# Altium footprint library NetTie_0.4.PcbLib: 1 footprints
Each footprint in its own frame and in the unit in brackets; x right, y up, seen from the top. Pads: shape width x height; smd on the part's side, far side on the other; paste and mask are expansions set on the pad; w line width, h text height; cw(c..) or ccw(c..) is an arc to the next point about the centre after c.
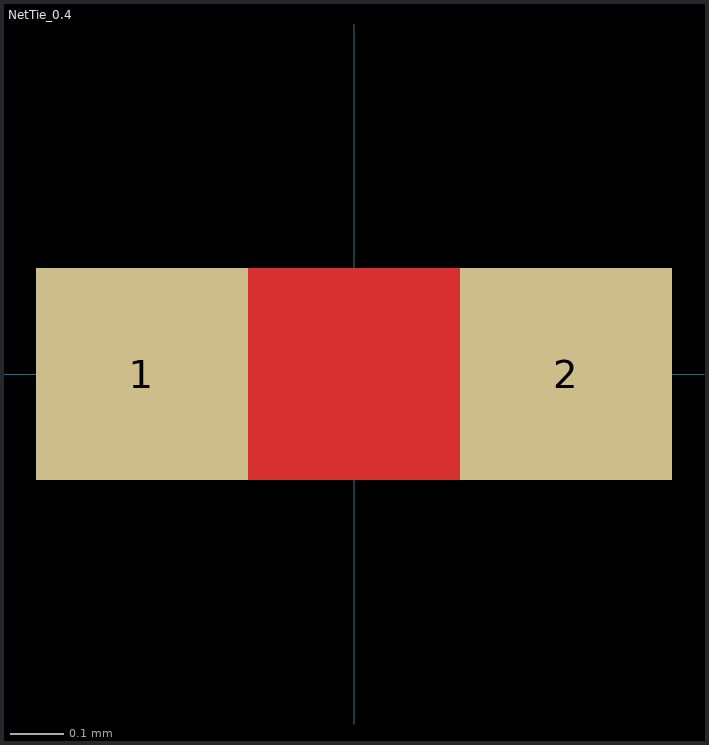
[diagram p0: the footprint, top view; thin cyan lines are the x and y axes]

## NetTie_0.4 [mm]
pads (2):
  rect 0.4x0.4 smd paste-1 mask+0: 1(-0.4,0) 2(0.4,0)
Top Layer:
  rectangle: -0.225,-0.2 0.225,0.2